# EAGLE library part MCP2515 (library Microchip)
Stand alone CAN controller with SPI interface
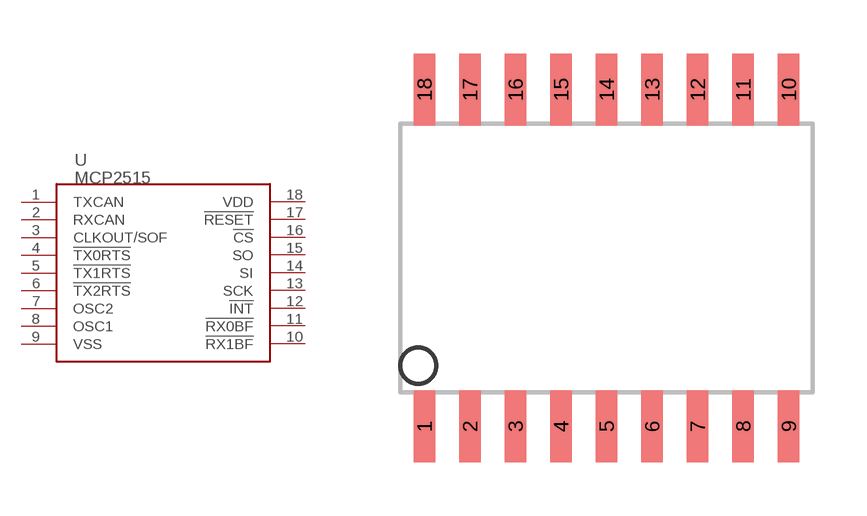
[diagram p0: symbol with the pads of SOIC18; footprint SOIC18]

Designator prefix -

## MCP2515-I/SO (PARTNO: MCP2515-I/SO)  [SOIC18]
1  TXCAN
2  RXCAN
3  CLKOUT/SOF
4  !TX0RTS
5  !TX1RTS
6  !TX2RTS
7  OSC2
8  OSC1
9  VSS
10  !RX1BF
11  !RX0BF
12  !INT
13  SCK
14  SI
15  SO
16  !CS
17  !RESET
18  VDD

## Footprint SOIC18 (pad centres in mm)
http://ww1.microchip.com/downloads/en/DeviceDoc/21801e.pdf
smd 0.6 x 2: 1 -5.08,-4.7; 2 -3.81,-4.7; 3 -2.54,-4.7; 4 -1.27,-4.7; 5 0,-4.7; 6 1.27,-4.7; 7 2.54,-4.7; 8 3.81,-4.7; 9 5.08,-4.7; 10 5.08,4.7; 11 3.81,4.7; 12 2.54,4.7; 13 1.27,4.7; 14 0,4.7; 15 -1.27,4.7; 16 -2.54,4.7; 17 -3.81,4.7; 18 -5.08,4.7